# Altium footprint library ON Semi MOSFETs.PcbLib: 92 footprints (part 1 of 6)
Each footprint in its own frame and in the unit in brackets; x right, y up, seen from the top. Pads: shape width x height; smd on the part's side, far side on the other; paste and mask are expansions set on the pad; w line width, h text height; cw(c..) or ccw(c..) is an arc to the next point about the centre after c.
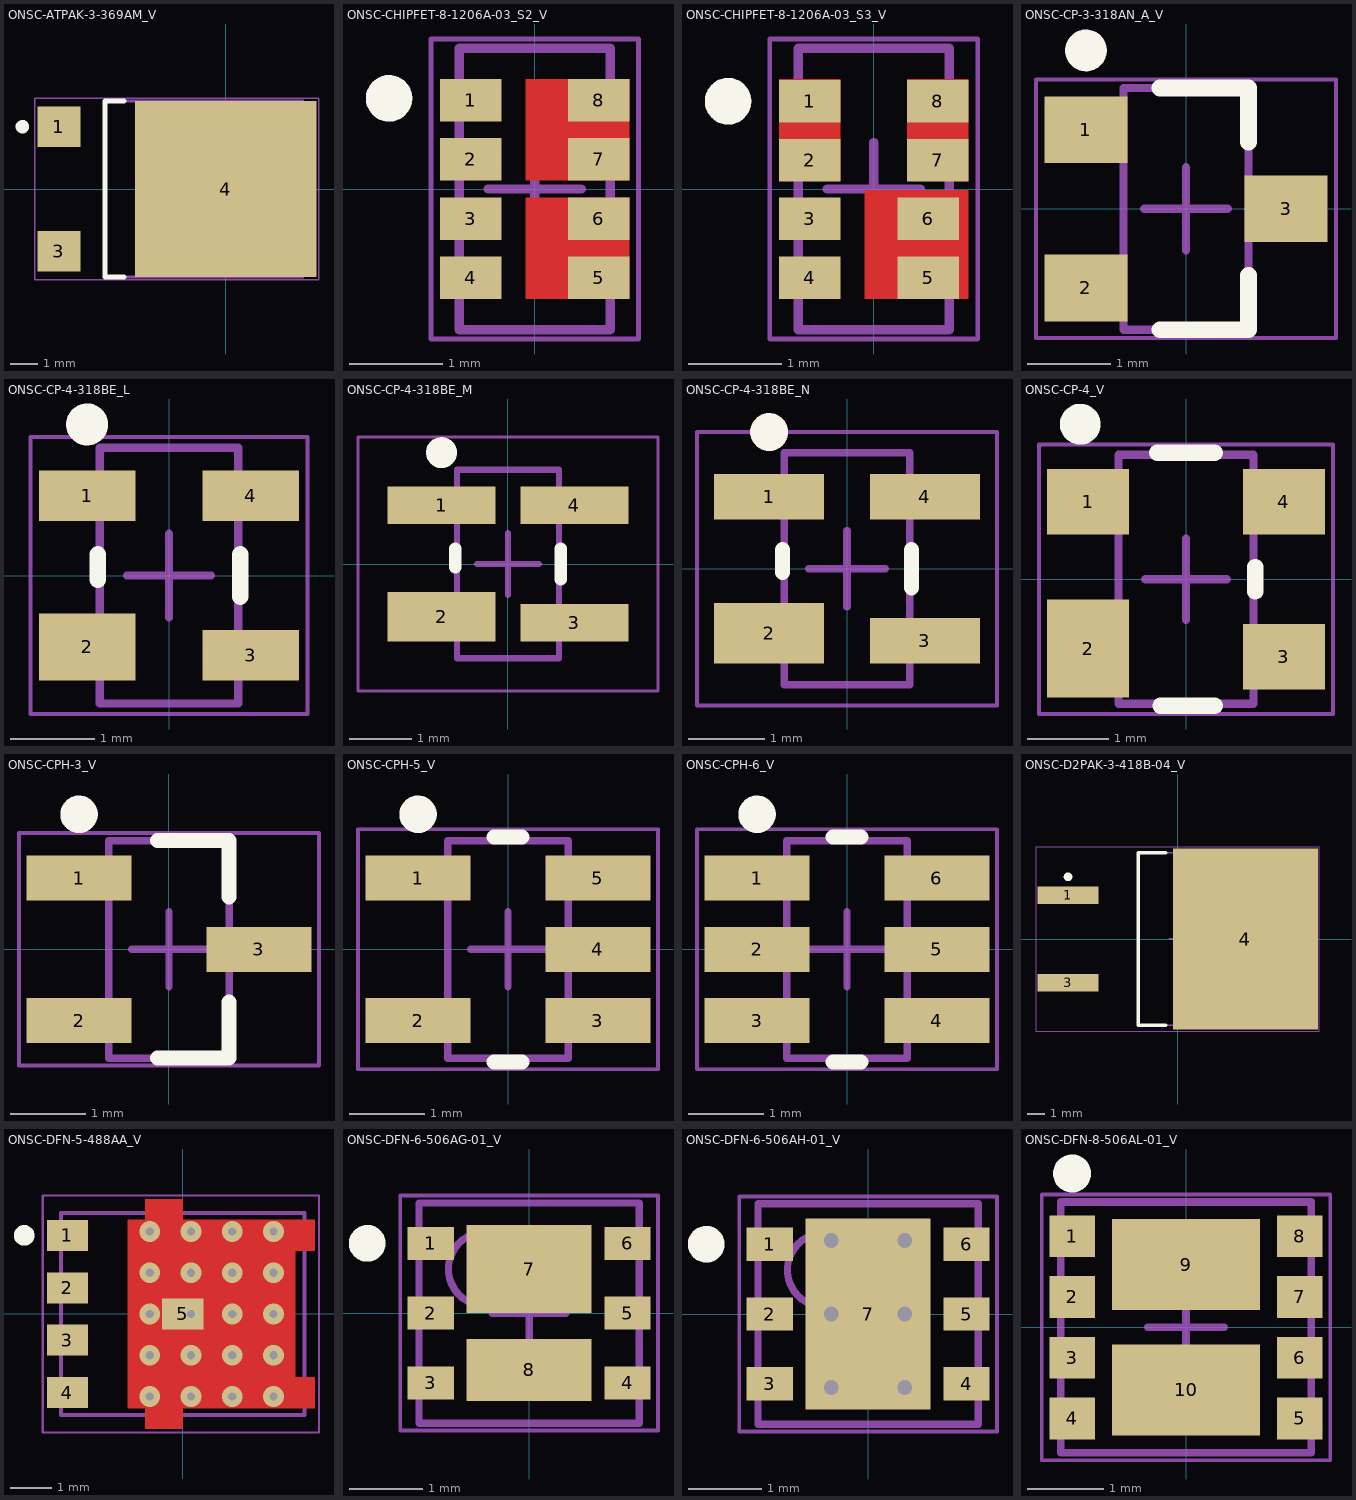
[diagram p0: the footprints below, top view; thin cyan lines are the x and y axes]

## ONSC-ATPAK-3-369AM_V [mm] "DPAK, 3-Leads, Body 7.3x6.5mm, Pitch 2.3mm"
height 1.77
pads (3):
  rect 1.6x1.5 smd: 1(-6.15,2.3) 3(-6.15,-2.3)
  rect 6.7x6.5 smd: 4(0,0)
Top Overlay:
  circle w0.25: c-7.5,2.3 r0.125
  lines w0.2: -3.75,-3.25 -4.45,-3.25 -4.45,3.25 -3.75,3.25
Mechanical 13:
  lines w0.1: -4.45,-3.25 -4.45,3.25 2.85,3.25 2.85,-3.25 -4.45,-3.25
Mechanical 15:
  lines w0.05: -7.05,-3.35 -7.05,3.35 3.45,3.35 3.45,-3.35 -7.05,-3.35
  lines w0.1: -0.5,0 0.5,0 ; 0,-0.5 0,0.5
3D body: height 1.77, standoff 0.02, extent -4.45,-3.25 2.85,3.25

## ONSC-CHIPFET-8-1206A-03_S2_V [mm] "SON, 8-Leads, Body 3.025x1.625mm, Pitch 0.635mm"
height 1.1
pads (8):
  rect 0.66x0.457 smd: 1(-0.686,0.953) 2(-0.686,0.318) 3(-0.686,-0.318) 4(-0.686,-0.953) 5(0.686,-0.953) 6(0.686,-0.318) 7(0.686,0.318) 8(0.686,0.953)
Top Layer:
  rectangle: -0.102,0.089 1.016,1.181
  rectangle: -0.102,-1.181 1.016,-0.089
Top Overlay:
  circle w0.25: c-1.566,0.975 r0.125
Mechanical 13:
  lines w0.1: -0.813,-1.512 0.813,-1.512 0.813,1.512 -0.813,1.512 -0.813,-1.512
Mechanical 15:
  lines w0.05: -1.116,-1.613 1.116,-1.613 1.116,1.613 -1.116,1.613 -1.116,-1.613
  lines w0.1: -0.5,0 0.5,0 ; 0,-0.5 0,0.5
3D body: height 1.1, standoff 0, extent -0.825,-1.525 0.825,1.525

## ONSC-CHIPFET-8-1206A-03_S3_V [mm] "SON, 8-Leads, Body 3.025x1.625mm, Pitch 0.65mm"
height 1.1
pads (8):
  rect 0.66x0.457 smd mask+0: 1(-0.686,0.943) 2(-0.686,0.308) 5(0.584,-0.953) 6(0.584,-0.318) 7(0.686,0.308) 8(0.686,0.943)
  rect 0.66x0.457 smd: 3(-0.686,-0.318) 4(-0.686,-0.953)
Top Layer:
  rectangle: -0.102,-1.181 1.016,-0.009
  region: 1.016,1.181 0.356,1.181 0.356,0.089 1.016,0.089
  rectangle: -1.016,0.089 -0.356,1.181
Top Overlay:
  circle w0.25: c-1.566,0.943 r0.125
Mechanical 13:
  lines w0.1: -0.813,-1.512 0.813,-1.512 0.813,1.512 -0.813,1.512 -0.813,-1.512
Mechanical 15:
  lines w0.05: -1.116,-1.612 -1.116,1.612 1.116,1.612 1.116,-1.612 -1.116,-1.612
  lines w0.1: -0.5,0 0.5,0 ; 0,-0.5 0,0.5
3D body: height 1.1, standoff 0, extent -0.813,-1.524 0.813,1.524

## ONSC-CP-3-318AN_A_V [mm] "SOT23, 3-Leads, Body 2.9x1.5mm, Pitch 0.95mm"
height 1.308
pads (3):
  rect 1x0.8 smd: 1(-1.2,0.95) 2(-1.2,-0.95) 3(1.2,0)
Top Overlay:
  circle w0.25: c-1.2,1.9 r0.125
  lines w0.2: -0.313,-1.45 0.75,-1.45 0.75,-0.8 ; -0.313,1.45 0.75,1.45 0.75,0.8
Mechanical 13:
  lines w0.1: -0.75,-1.45 -0.75,1.45 0.75,1.45 0.75,-1.45 -0.75,-1.45
Mechanical 15:
  lines w0.05: -1.8,-1.55 -1.8,1.55 1.8,1.55 1.8,-1.55 -1.8,-1.55
  lines w0.1: -0.5,0 0.5,0 ; 0,-0.5 0,0.5
3D body: height 1.31, standoff 0, extent -0.75,-1.45 0.75,1.45

## ONSC-CP-4-318BE_L [mm] "SOT143, 4-Leads, Body 3.05x1.65mm, Pitch 1.9mm, IPC High Density"
height 1.31
pads (4):
  rect 1.15x0.6 smd: 1(-0.975,0.95) 3(0.975,-0.95) 4(0.975,0.95)
  rect 1.15x0.8 smd: 2(-0.975,-0.85)
Top Overlay:
  circle w0.25: c-0.975,1.8 r0.125
  lines w0.2: -0.85,-0.05 -0.85,0.25 ; 0.85,-0.25 0.85,0.25
Mechanical 13:
  lines w0.1: -0.825,-1.525 -0.825,1.525 0.825,1.525 0.825,-1.525 -0.825,-1.525
Mechanical 15:
  lines w0.05: -1.65,-1.65 -1.65,1.65 1.65,1.65 1.65,-1.65 -1.65,-1.65
  lines w0.1: -0.5,0 0.5,0 ; 0,-0.5 0,0.5
3D body: height 1.31, standoff 0, extent -0.825,-1.525 0.825,1.525

## ONSC-CP-4-318BE_M [mm] "SOT143, 4-Leads, Body 3.05x1.65mm, Pitch 1.9mm, IPC Low Density"
height 1.31
pads (4):
  rect 1.75x0.6 smd: 1(-1.075,0.95) 3(1.075,-0.95) 4(1.075,0.95)
  rect 1.75x0.8 smd: 2(-1.075,-0.85)
Top Overlay:
  circle w0.25: c-1.075,1.8 r0.125
  lines w0.2: -0.85,-0.05 -0.85,0.25 ; 0.85,-0.25 0.85,0.25
Mechanical 13:
  lines w0.1: -0.825,-1.525 -0.825,1.525 0.825,1.525 0.825,-1.525 -0.825,-1.525
Mechanical 15:
  lines w0.05: -2.425,-2.05 -2.425,2.05 2.425,2.05 2.425,-2.05 -2.425,-2.05
  lines w0.1: -0.5,0 0.5,0 ; 0,-0.5 0,0.5
3D body: height 1.31, standoff 0, extent -0.825,-1.525 0.825,1.525

## ONSC-CP-4-318BE_N [mm] "SOT143, 4-Leads, Body 3.05x1.65mm, Pitch 1.9mm, IPC Medium Density"
height 1.31
pads (4):
  rect 1.45x0.6 smd: 1(-1.025,0.95) 3(1.025,-0.95) 4(1.025,0.95)
  rect 1.45x0.8 smd: 2(-1.025,-0.85)
Top Overlay:
  circle w0.25: c-1.025,1.8 r0.125
  lines w0.2: -0.85,-0.05 -0.85,0.25 ; 0.85,-0.25 0.85,0.25
Mechanical 13:
  lines w0.1: -0.825,-1.525 -0.825,1.525 0.825,1.525 0.825,-1.525 -0.825,-1.525
Mechanical 15:
  lines w0.05: -1.975,-1.8 -1.975,1.8 1.975,1.8 1.975,-1.8 -1.975,-1.8
  lines w0.1: -0.5,0 0.5,0 ; 0,-0.5 0,0.5
3D body: height 1.31, standoff 0, extent -0.825,-1.525 0.825,1.525

## ONSC-CP-4_V [mm] "SOT, 4-Leads, Body 3.05x1.65mm"
height 1.31
pads (4):
  rect 1x0.8 smd: 1(-1.2,0.95) 3(1.2,-0.95) 4(1.2,0.95)
  rect 1x1.2 smd: 2(-1.2,-0.85)
Top Overlay:
  circle w0.25: c-1.295,1.9 r0.125
  lines w0.2: -0.354,1.55 0.354,1.55 ; -0.313,-1.55 0.354,-1.55 ; 0.85,-0.15 0.85,0.15
Mechanical 13:
  lines w0.1: -0.825,-1.525 0.825,-1.525 0.825,1.525 -0.825,1.525 -0.825,-1.525
Mechanical 15:
  lines w0.05: -1.8,-1.65 1.8,-1.65 1.8,1.65 -1.8,1.65 -1.8,-1.65
  lines w0.1: -0.5,0 0.5,0 ; 0,-0.5 0,0.5
3D body: height 1.31, standoff 0, extent -0.825,-1.525 0.825,1.525

## ONSC-CPH-3_V [mm] "SOT23, 3-Leads, Body 2.9x1.6mm, Pitch 0.95mm"
height 1.05
pads (3):
  rect 1.4x0.6 smd: 1(-1.2,0.95) 2(-1.2,-0.95) 3(1.2,0)
Top Overlay:
  circle w0.25: c-1.2,1.8 r0.125
  lines w0.2: -0.154,-1.45 0.8,-1.45 0.8,-0.7 ; -0.154,1.45 0.8,1.45 0.8,0.7
Mechanical 13:
  lines w0.1: -0.8,-1.45 -0.8,1.45 0.8,1.45 0.8,-1.45 -0.8,-1.45
Mechanical 15:
  lines w0.05: -2,-1.55 -2,1.55 2,1.55 2,-1.55 -2,-1.55
  lines w0.1: -0.5,0 0.5,0 ; 0,-0.5 0,0.5
3D body: height 1.05, standoff 0, extent -0.8,-1.45 0.8,1.45

## ONSC-CPH-5_V [mm] "SOT23, 5-Leads, Body 2.9x1.6mm, Pitch 0.95mm"
height 1.02
pads (5):
  rect 1.4x0.6 smd: 1(-1.2,0.95) 2(-1.2,-0.95) 3(1.2,-0.95) 4(1.2,0) 5(1.2,0.95)
Top Overlay:
  circle w0.25: c-1.2,1.8 r0.125
  lines w0.2: -0.188,-1.5 0.188,-1.5 ; -0.188,1.5 0.188,1.5
Mechanical 13:
  lines w0.1: -0.8,-1.45 0.8,-1.45 0.8,1.45 -0.8,1.45 -0.8,-1.45
Mechanical 15:
  lines w0.05: -2,-1.6 2,-1.6 2,1.6 -2,1.6 -2,-1.6
  lines w0.1: -0.5,0 0.5,0 ; 0,-0.5 0,0.5
3D body: height 1.02, standoff 0, extent -0.8,-1.45 0.8,1.45

## ONSC-CPH-6_V [mm] "SOT23, 6-Leads, Body 2.9x1.6mm, Pitch 0.95mm"
height 1.02
pads (6):
  rect 1.4x0.6 smd: 1(-1.2,0.95) 2(-1.2,0) 3(-1.2,-0.95) 4(1.2,-0.95) 5(1.2,0) 6(1.2,0.95)
Top Overlay:
  circle w0.25: c-1.2,1.8 r0.125
  lines w0.2: -0.188,-1.5 0.188,-1.5 ; -0.188,1.5 0.188,1.5
Mechanical 13:
  lines w0.1: -0.8,-1.45 0.8,-1.45 0.8,1.45 -0.8,1.45 -0.8,-1.45
Mechanical 15:
  lines w0.05: -2,-1.6 2,-1.6 2,1.6 -2,1.6 -2,-1.6
  lines w0.1: -0.5,0 0.5,0 ; 0,-0.5 0,0.5
3D body: height 1.02, standoff 0, extent -0.8,-1.45 0.8,1.45

## ONSC-D2PAK-3-418B-04_V [mm] "DPAK, 3-Leads, Body 9.97x9.145mm, Pitch 2.54mm"
height 4.83
pads (3):
  rect 3.504x1.016 smd: 1(-6.35,2.54) 3(-6.35,-2.54)
  rect 8.38x10.49 smd: 4(3.9,0)
Top Overlay:
  circle w0.25: c-6.35,3.598 r0.125
  lines w0.2: -0.69,-4.985 -2.3,-4.985 -2.3,4.985 -0.69,4.985
Mechanical 13:
  lines w0.1: -2.3,-4.985 6.845,-4.985 6.845,4.985 -2.3,4.985 -2.3,-4.985
Mechanical 15:
  lines w0.05: -8.202,-5.345 8.19,-5.345 8.19,5.345 -8.202,5.345 -8.202,-5.345
  lines w0.1: -0.5,0 0.5,0 ; 0,-0.5 0,0.5
3D body: height 4.83, standoff 0, extent -2.3,-4.985 6.845,4.985

## ONSC-DFN-5-488AA_V [mm] "DFN, 5-Leads, Body 5.9x4.9mm, Pitch 1.27mm"
height 1.1
pads (5):
  rect 1x0.75 smd: 1(-2.795,1.905) 2(-2.795,0.635) 3(-2.795,-0.635) 4(-2.795,-1.905)
  rect 1x0.75 smd paste+0 mask+0: 5(0,0)
via 0.198,0 diameter 0.5 hole 0.2
via 0.198,2 diameter 0.5 hole 0.2
via 0.198,-1 diameter 0.5 hole 0.2
via 0.198,-2 diameter 0.5 hole 0.2
via 0.198,1 diameter 0.5 hole 0.2
via 1.198,0 diameter 0.5 hole 0.2
via 1.198,1 diameter 0.5 hole 0.2
via 1.198,2 diameter 0.5 hole 0.2
via 1.198,-2 diameter 0.5 hole 0.2
via 1.198,-1 diameter 0.5 hole 0.2
via -0.803,1 diameter 0.5 hole 0.2
via -0.803,-2 diameter 0.5 hole 0.2
via -0.803,-1 diameter 0.5 hole 0.2
via -0.803,2 diameter 0.5 hole 0.2
via -0.803,0 diameter 0.5 hole 0.2
via 2.198,-1 diameter 0.5 hole 0.2
via 2.198,-2 diameter 0.5 hole 0.2
via 2.198,2 diameter 0.5 hole 0.2
via 2.198,1 diameter 0.5 hole 0.2
via 2.198,0 diameter 0.5 hole 0.2
Top Layer:
  region: -0.905,-2.775 -0.905,-2.28 -1.33,-2.28 -1.33,2.28 -0.905,2.28 -0.905,2.775 0,2.775 0,2.28 3.2,2.28 3.2,1.53 2.725,1.53 2.725,-1.53 3.2,-1.53 3.2,-2.28 0,-2.28 0,-2.775
Top Overlay:
  circle w0.25: c-3.845,1.905 r0.125
Mechanical 13:
  lines w0.1: -2.95,-2.45 -2.95,2.45 2.95,2.45 2.95,-2.45 -2.95,-2.45
Mechanical 15:
  lines w0.05: -3.395,-2.875 3.3,-2.875 3.3,2.875 -3.395,2.875 -3.395,-2.875
  lines w0.1: -0.5,0 0.5,0 ; 0,-0.5 0,0.5
3D body: height 1.1, standoff 0, extent -2.95,-2.45 2.95,2.45

## ONSC-DFN-6-506AG-01_V [mm] "SON, 6-Leads, Body 3x3mm, Pitch 0.95mm"
height 1
pads (8):
  rect 0.63x0.45 smd: 1(-1.34,0.95) 2(-1.34,0) 3(-1.34,-0.95) 4(1.34,-0.95) 5(1.34,0) 6(1.34,0.95)
  rect 1.7x1.2 smd: 7(0,0.6)
  rect 1.7x0.85 smd: 8(0,-0.775)
Top Overlay:
  circle w0.25: c-2.205,0.95 r0.125
Mechanical 13:
  circle w0.1: c-0.6,0.6 r0.5
  lines w0.1: -1.5,-1.5 1.5,-1.5 1.5,1.5 -1.5,1.5 -1.5,-1.5
Mechanical 15:
  lines w0.05: -1.755,-1.6 1.755,-1.6 1.755,1.6 -1.755,1.6 -1.755,-1.6
  lines w0.1: -0.5,0 0.5,0 ; 0,-0.5 0,0.5
3D body: height 1, standoff 0, extent -1.5,-1.5 1.5,1.5

## ONSC-DFN-6-506AH-01_V [mm] "SON, 6-Leads, Body 3x3mm, Pitch 0.95mm, Thermal Pad 2.6x1.7mm"
height 1
pads (7):
  rect 0.63x0.45 smd: 1(-1.34,0.95) 2(-1.34,0) 3(-1.34,-0.95) 4(1.34,-0.95) 5(1.34,0) 6(1.34,0.95)
  rect 1.7x2.6 smd: 7(0,0)
via 0.5,-1 diameter 0.5 hole 0.2
via -0.5,-1 diameter 0.5 hole 0.2
via 0.5,0 diameter 0.5 hole 0.2
via -0.5,0 diameter 0.5 hole 0.2
via 0.5,1 diameter 0.5 hole 0.2
via -0.5,1 diameter 0.5 hole 0.2
Top Overlay:
  circle w0.25: c-2.205,0.95 r0.125
Mechanical 13:
  circle w0.1: c-0.6,0.6 r0.5
  lines w0.1: -1.5,-1.5 1.5,-1.5 1.5,1.5 -1.5,1.5 -1.5,-1.5
Mechanical 15:
  lines w0.05: -1.755,-1.6 1.755,-1.6 1.755,1.6 -1.755,1.6 -1.755,-1.6
  lines w0.1: -0.5,0 0.5,0 ; 0,-0.5 0,0.5
3D body: height 1, standoff 0, extent -1.5,-1.5 1.5,1.5

## ONSC-DFN-8-506AL-01_V [mm] "SON, 8-Leads, Body 3.3x3.3mm, Pitch 0.8mm"
height 1
pads (10):
  rect 0.6x0.55 smd: 1(-1.5,1.2) 2(-1.5,0.4) 3(-1.5,-0.4) 4(-1.5,-1.2) 5(1.5,-1.2) 6(1.5,-0.4) 7(1.5,0.4) 8(1.5,1.2)
  rect 1.95x1.2 smd: 9(0,0.825) 10(0,-0.825)
Top Overlay:
  circle w0.25: c-1.5,2.025 r0.125
Mechanical 13:
  lines w0.1: -1.65,-1.65 1.65,-1.65 1.65,1.65 -1.65,1.65 -1.65,-1.65
Mechanical 15:
  lines w0.05: -1.9,-1.75 1.9,-1.75 1.9,1.75 -1.9,1.75 -1.9,-1.75
  lines w0.1: -0.5,0 0.5,0 ; 0,-0.5 0,0.5
3D body: height 1, standoff 0, extent -1.65,-1.65 1.65,1.65